# EAGLE library part ACJS-MHD (library ACJS-MHD)
1/4" Dual Horizonal PCB Phone Jack, Stereo, Metal Bore, Metal Nut, Plastic Thread/ Smap-fit PCB Source: Datasheet <https://www.amphenol-sine.com/pdf/datasheet/ACJS-MHD.pdf>
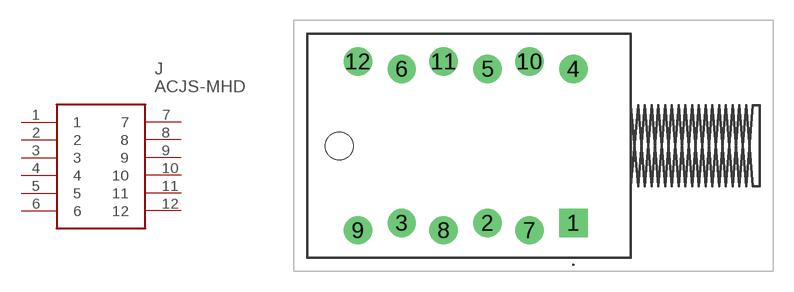
[diagram p0: symbol with the pads of ACJSMHD; footprint ACJSMHD]

Designator prefix J

## ACJS-MHD (Arrow_Part_Number: ACJS-MHD; Arrow_Price-Stock: https://www.arrow.com/en/products/acjs-mhd/amphenol?utm_currency=USD&region=nac; Description: 1/4" Dual Horizonal PCB Phone Jack, Stereo, Metal Bore, Metal Nut, Plastic Thread/ Smap-fit PCB; Height: 29.37mm; Manufacturer_Name: Amphenol Sine Systems; Manufacturer_Part_Number: ACJS-MHD)  [ACJSMHD]
1  1
2  2
3  3
4  4
5  5
6  6
7  7
8  8
9  9
10  10
11  11
12  12

## Footprint ACJSMHD (pad centres in mm)
ACJS-MHD-3
drill 1.4 pad 2.1 square: 1 0,0
drill 1.4 pad 2.1: 2 -6.35,0; 3 -12.7,0; 4 0,11.4; 5 -6.35,11.4; 6 -12.7,11.4; 7 -3.25,-0.55; 8 -9.6,-0.55; 9 -15.95,-0.55; 10 -3.25,11.95; 11 -9.6,11.95; 12 -15.95,11.95
hole 2.05 at -17.33,5.7